# Altium footprint library 7segfootprint.PcbLib: 1 footprints
Each footprint in its own frame and in the unit in brackets; x right, y up, seen from the top. Pads: shape width x height; smd on the part's side, far side on the other; paste and mask are expansions set on the pad; w line width, h text height; cw(c..) or ccw(c..) is an arc to the next point about the centre after c.
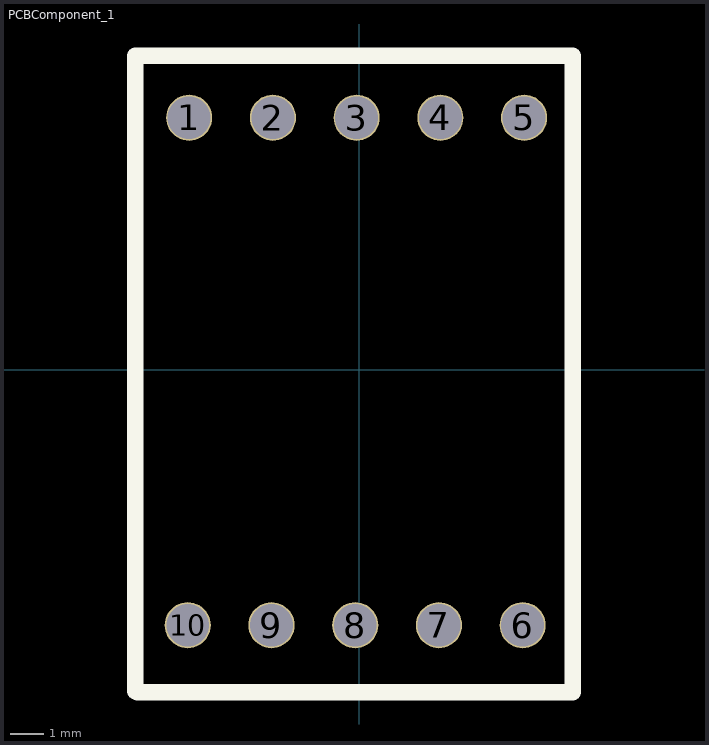
[diagram p0: the footprint, top view; thin cyan lines are the x and y axes]

## PCBComponent_1 [mm]
pads (10):
  round 1.4 / inner round 1.4 / far side oval 1.7x2.2 hole 1.3 mask+0.1: 1(-5.163,7.648) 2(-2.623,7.648) 3(-0.083,7.648) 4(2.457,7.648) 5(4.997,7.648) 6(4.953,-7.747) 7(2.413,-7.747) 8(-0.127,-7.747) 9(-2.667,-7.747) 10(-5.207,-7.747)
Top Overlay:
  lines w0.5: -6.803,-9.753 -6.803,9.525 6.477,9.525 6.477,-9.779 -6.731,-9.779